# Altium schematic symbol library RF_shield.SchLib: 1 symbol
Pins are listed as number, name and electrical type; pins without a type are passive.

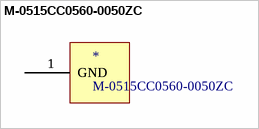
[diagram p0: symbol M-0515CC0560-0050ZC]

## M-0515CC0560-0050ZC
designator *
M-0515CC0560-0050ZC RF Shield (CAN)
footprint M-0515CC0560-0050ZC (M-0515CC0560-0050ZC RF Shield)
pins: 1 GND, 1 GND